# EAGLE library part WM8740 (library toslink)
24-bit, High Performance 192kHz Stereo DAC
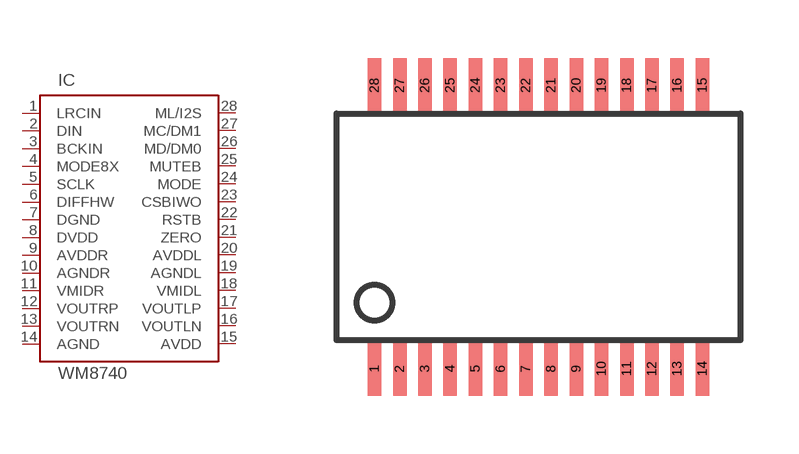
[diagram p12: symbol with the pads of SSOP28DB; footprint SSOP28DB]

Designator prefix IC

## WM8740  [SSOP28DB]
1  LRCIN  in
2  DIN  in
3  BCKIN  in
4  MODE8X  in
5  SCLK  in
6  DIFFHW  in
7  DGND  pwr
8  DVDD  pwr
9  AVDDR  pwr
10  AGNDR  pwr
11  VMIDR  out
12  VOUTRP  out
13  VOUTRN  out
14  AGND  pwr
15  AVDD  pwr
16  VOUTLN  out
17  VOUTLP  out
18  VMIDL  out
19  AGNDL  pwr
20  AVDDL  pwr
21  ZERO  out
22  RSTB  in
23  CSBIWO  in
24  MODE  in
25  MUTEB  in
26  MD/DM0  in
27  MC/DM1  in
28  ML/I2S  in

## Footprint SSOP28DB (pad centres in mm)
Small Shrink Outline Package
smd 0.348 x 1.397: 1 -4.225,-3.656; 2 -3.575,-3.656; 3 -2.925,-3.656; 4 -2.275,-3.656; 5 -1.625,-3.656; 6 -0.975,-3.656; 7 -0.325,-3.656; 8 0.325,-3.656; 9 0.975,-3.656; 10 1.625,-3.656; 11 2.275,-3.656; 12 2.925,-3.656; 13 3.575,-3.656; 14 4.225,-3.656; 15 4.225,3.656; 16 3.575,3.656; 17 2.925,3.656; 18 2.275,3.656; 19 1.625,3.656; 20 0.975,3.656; 21 0.325,3.656; 22 -0.325,3.656; 23 -0.975,3.656; 24 -1.625,3.656; 25 -2.275,3.656; 26 -2.925,3.656; 27 -3.575,3.656; 28 -4.225,3.656